# Altium footprint library QFP_Rect_65P_Side_N.PcbLib: 6 footprints
Each footprint in its own frame and in the unit in brackets; x right, y up, seen from the top. Pads: shape width x height; smd on the part's side, far side on the other; paste and mask are expansions set on the pad; w line width, h text height; cw(c..) or ccw(c..) is an arc to the next point about the centre after c.
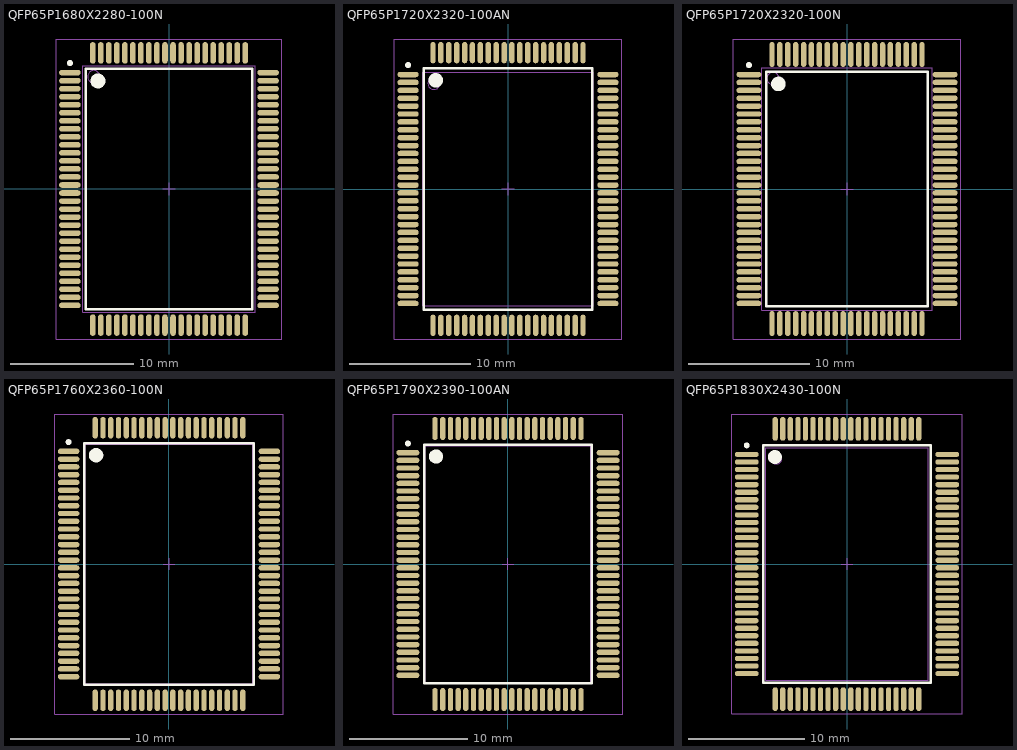
[diagram p0: the footprints below, top view; thin cyan lines are the x and y axes]

## QFP65P1680X2280-100N [mm] "100-Pin Quad Flat Pack Rectangular 0.65 mm Pitch"
height 3.05
pads (100):
  oval 1.75x0.45 smd: 1(-8.025,9.425) 2(-8.025,8.775) 3(-8.025,8.125) 4(-8.025,7.475) 5(-8.025,6.825) 6(-8.025,6.175) 7(-8.025,5.525) 8(-8.025,4.875) 9(-8.025,4.225) 10(-8.025,3.575) 11(-8.025,2.925) 12(-8.025,2.275) 13(-8.025,1.625) 14(-8.025,0.975) 15(-8.025,0.325) 16(-8.025,-0.325) 17(-8.025,-0.975) 18(-8.025,-1.625) 19(-8.025,-2.275) 20(-8.025,-2.925) 21(-8.025,-3.575) 22(-8.025,-4.225) 23(-8.025,-4.875) 24(-8.025,-5.525) 25(-8.025,-6.175) 26(-8.025,-6.825) 27(-8.025,-7.475) 28(-8.025,-8.125) 29(-8.025,-8.775) 30(-8.025,-9.425) 51(8.025,-9.425) 52(8.025,-8.775) 53(8.025,-8.125) 54(8.025,-7.475) 55(8.025,-6.825) 56(8.025,-6.175) 57(8.025,-5.525) 58(8.025,-4.875) 59(8.025,-4.225) 60(8.025,-3.575) 61(8.025,-2.925) 62(8.025,-2.275) 63(8.025,-1.625) 64(8.025,-0.975) 65(8.025,-0.325) 66(8.025,0.325) 67(8.025,0.975) 68(8.025,1.625) 69(8.025,2.275) 70(8.025,2.925) 71(8.025,3.575) 72(8.025,4.225) 73(8.025,4.875) 74(8.025,5.525) 75(8.025,6.175) 76(8.025,6.825) 77(8.025,7.475) 78(8.025,8.125) 79(8.025,8.775) 80(8.025,9.425)
  oval 0.45x1.75 smd: 31(-6.175,-11.025) 32(-5.525,-11.025) 33(-4.875,-11.025) 34(-4.225,-11.025) 35(-3.575,-11.025) 36(-2.925,-11.025) 37(-2.275,-11.025) 38(-1.625,-11.025) 39(-0.975,-11.025) 40(-0.325,-11.025) 41(0.325,-11.025) 42(0.975,-11.025) 43(1.625,-11.025) 44(2.275,-11.025) 45(2.925,-11.025) 46(3.575,-11.025) 47(4.225,-11.025) 48(4.875,-11.025) 49(5.525,-11.025) 50(6.175,-11.025) 81(6.175,11.025) 82(5.525,11.025) 83(4.875,11.025) 84(4.225,11.025) 85(3.575,11.025) 86(2.925,11.025) 87(2.275,11.025) 88(1.625,11.025) 89(0.975,11.025) 90(0.325,11.025) 91(-0.325,11.025) 92(-0.975,11.025) 93(-1.625,11.025) 94(-2.275,11.025) 95(-2.925,11.025) 96(-3.575,11.025) 97(-4.225,11.025) 98(-4.875,11.025) 99(-5.525,11.025) 100(-6.175,11.025)
Top Overlay:
  circle w0.6: c-5.75,8.75 r0.3
  circle w0.25: c-8.025,10.2 r0.125
  lines w0.2: -6.75,-9.75 6.75,-9.75 6.75,9.75 -6.75,9.75 -6.75,-9.75
Mechanical 13:
  circle w0.1: c-6.1,9.1 r0.5
  lines w0.1: -7,-10 7,-10 7,10 -7,10 -7,-10
Mechanical 15:
  lines w0.1: -0.5,0 0.5,0 ; 0,-0.5 0,0.5 ; -9.15,-12.15 9.15,-12.15 9.15,12.15 -9.15,12.15 -9.15,-12.15
3D body: height 3.05, standoff 0, extent -7,-10 7,10

## QFP65P1720X2320-100AN [mm] "QFP, 100-Leads, Body 20x14mm, Pitch 0.65mm, IPC Medium Density"
height 3.22
pads (100):
  oval 1.75x0.45 smd: 1(-8.225,9.425) 2(-8.225,8.775) 3(-8.225,8.125) 4(-8.225,7.475) 5(-8.225,6.825) 6(-8.225,6.175) 7(-8.225,5.525) 8(-8.225,4.875) 9(-8.225,4.225) 10(-8.225,3.575) 11(-8.225,2.925) 12(-8.225,2.275) 13(-8.225,1.625) 14(-8.225,0.975) 15(-8.225,0.325) 16(-8.225,-0.325) 17(-8.225,-0.975) 18(-8.225,-1.625) 19(-8.225,-2.275) 20(-8.225,-2.925) 21(-8.225,-3.575) 22(-8.225,-4.225) 23(-8.225,-4.875) 24(-8.225,-5.525) 25(-8.225,-6.175) 26(-8.225,-6.825) 27(-8.225,-7.475) 28(-8.225,-8.125) 29(-8.225,-8.775) 30(-8.225,-9.425) 51(8.225,-9.425) 52(8.225,-8.775) 53(8.225,-8.125) 54(8.225,-7.475) 55(8.225,-6.825) 56(8.225,-6.175) 57(8.225,-5.525) 58(8.225,-4.875) 59(8.225,-4.225) 60(8.225,-3.575) 61(8.225,-2.925) 62(8.225,-2.275) 63(8.225,-1.625) 64(8.225,-0.975) 65(8.225,-0.325) 66(8.225,0.325) 67(8.225,0.975) 68(8.225,1.625) 69(8.225,2.275) 70(8.225,2.925) 71(8.225,3.575) 72(8.225,4.225) 73(8.225,4.875) 74(8.225,5.525) 75(8.225,6.175) 76(8.225,6.825) 77(8.225,7.475) 78(8.225,8.125) 79(8.225,8.775) 80(8.225,9.425)
  oval 0.45x1.75 smd: 31(-6.175,-11.225) 32(-5.525,-11.225) 33(-4.875,-11.225) 34(-4.225,-11.225) 35(-3.575,-11.225) 36(-2.925,-11.225) 37(-2.275,-11.225) 38(-1.625,-11.225) 39(-0.975,-11.225) 40(-0.325,-11.225) 41(0.325,-11.225) 42(0.975,-11.225) 43(1.625,-11.225) 44(2.275,-11.225) 45(2.925,-11.225) 46(3.575,-11.225) 47(4.225,-11.225) 48(4.875,-11.225) 49(5.525,-11.225) 50(6.175,-11.225) 81(6.175,11.225) 82(5.525,11.225) 83(4.875,11.225) 84(4.225,11.225) 85(3.575,11.225) 86(2.925,11.225) 87(2.275,11.225) 88(1.625,11.225) 89(0.975,11.225) 90(0.325,11.225) 91(-0.325,11.225) 92(-0.975,11.225) 93(-1.625,11.225) 94(-2.275,11.225) 95(-2.925,11.225) 96(-3.575,11.225) 97(-4.225,11.225) 98(-4.875,11.225) 99(-5.525,11.225) 100(-6.175,11.225)
Top Overlay:
  circle w0.25: c-8.225,10.2 r0.125
  circle w0.6: c-5.95,8.95 r0.3
  lines w0.2: -6.95,-9.95 -6.95,9.95 6.95,9.95 6.95,-9.95 -6.95,-9.95
Mechanical 13:
  circle w0.1: c-6.1,8.7 r0.5
  lines w0.1: -7,-9.6 -7,9.6 7,9.6 7,-9.6 -7,-9.6
Mechanical 15:
  lines w0.1: -0.5,0 0.5,0 ; 0,-0.5 0,0.5 ; -9.35,-12.35 -9.35,12.35 9.35,12.35 9.35,-12.35 -9.35,-12.35
3D body: height 3.22, standoff 0, extent -7,-9.6 7,9.6

## QFP65P1720X2320-100N [mm] "QFP, 100-Leads, Body 20x14mm, Pitch 0.65mm, IPC Medium Density"
height 3.4
pads (100):
  oval 2.05x0.45 smd: 1(-8.075,9.425) 2(-8.075,8.775) 3(-8.075,8.125) 4(-8.075,7.475) 5(-8.075,6.825) 6(-8.075,6.175) 7(-8.075,5.525) 8(-8.075,4.875) 9(-8.075,4.225) 10(-8.075,3.575) 11(-8.075,2.925) 12(-8.075,2.275) 13(-8.075,1.625) 14(-8.075,0.975) 15(-8.075,0.325) 16(-8.075,-0.325) 17(-8.075,-0.975) 18(-8.075,-1.625) 19(-8.075,-2.275) 20(-8.075,-2.925) 21(-8.075,-3.575) 22(-8.075,-4.225) 23(-8.075,-4.875) 24(-8.075,-5.525) 25(-8.075,-6.175) 26(-8.075,-6.825) 27(-8.075,-7.475) 28(-8.075,-8.125) 29(-8.075,-8.775) 30(-8.075,-9.425) 51(8.075,-9.425) 52(8.075,-8.775) 53(8.075,-8.125) 54(8.075,-7.475) 55(8.075,-6.825) 56(8.075,-6.175) 57(8.075,-5.525) 58(8.075,-4.875) 59(8.075,-4.225) 60(8.075,-3.575) 61(8.075,-2.925) 62(8.075,-2.275) 63(8.075,-1.625) 64(8.075,-0.975) 65(8.075,-0.325) 66(8.075,0.325) 67(8.075,0.975) 68(8.075,1.625) 69(8.075,2.275) 70(8.075,2.925) 71(8.075,3.575) 72(8.075,4.225) 73(8.075,4.875) 74(8.075,5.525) 75(8.075,6.175) 76(8.075,6.825) 77(8.075,7.475) 78(8.075,8.125) 79(8.075,8.775) 80(8.075,9.425)
  oval 0.45x2.05 smd: 31(-6.175,-11.075) 32(-5.525,-11.075) 33(-4.875,-11.075) 34(-4.225,-11.075) 35(-3.575,-11.075) 36(-2.925,-11.075) 37(-2.275,-11.075) 38(-1.625,-11.075) 39(-0.975,-11.075) 40(-0.325,-11.075) 41(0.325,-11.075) 42(0.975,-11.075) 43(1.625,-11.075) 44(2.275,-11.075) 45(2.925,-11.075) 46(3.575,-11.075) 47(4.225,-11.075) 48(4.875,-11.075) 49(5.525,-11.075) 50(6.175,-11.075) 81(6.175,11.075) 82(5.525,11.075) 83(4.875,11.075) 84(4.225,11.075) 85(3.575,11.075) 86(2.925,11.075) 87(2.275,11.075) 88(1.625,11.075) 89(0.975,11.075) 90(0.325,11.075) 91(-0.325,11.075) 92(-0.975,11.075) 93(-1.625,11.075) 94(-2.275,11.075) 95(-2.925,11.075) 96(-3.575,11.075) 97(-4.225,11.075) 98(-4.875,11.075) 99(-5.525,11.075) 100(-6.175,11.075)
Top Overlay:
  circle w0.6: c-5.65,8.65 r0.3
  circle w0.25: c-8.075,10.2 r0.125
  lines w0.2: -6.65,-9.65 6.65,-9.65 6.65,9.65 -6.65,9.65 -6.65,-9.65
Mechanical 13:
  circle w0.1: c-6.1,9.1 r0.5
  lines w0.1: -7,-10 7,-10 7,10 -7,10 -7,-10
Mechanical 15:
  lines w0.1: -0.5,0 0.5,0 ; 0,-0.5 0,0.5 ; -9.35,-12.35 9.35,-12.35 9.35,12.35 -9.35,12.35 -9.35,-12.35
3D body: height 3.4, standoff 0, extent -7,-10 7,10

## QFP65P1760X2360-100N [mm] "QFP, 100-Leads, Body 20x14mm, Pitch 0.65mm, IPC Medium Density"
height 3.27
pads (100):
  oval 1.8x0.45 smd: 1(-8.4,9.425) 2(-8.4,8.775) 3(-8.4,8.125) 4(-8.4,7.475) 5(-8.4,6.825) 6(-8.4,6.175) 7(-8.4,5.525) 8(-8.4,4.875) 9(-8.4,4.225) 10(-8.4,3.575) 11(-8.4,2.925) 12(-8.4,2.275) 13(-8.4,1.625) 14(-8.4,0.975) 15(-8.4,0.325) 16(-8.4,-0.325) 17(-8.4,-0.975) 18(-8.4,-1.625) 19(-8.4,-2.275) 20(-8.4,-2.925) 21(-8.4,-3.575) 22(-8.4,-4.225) 23(-8.4,-4.875) 24(-8.4,-5.525) 25(-8.4,-6.175) 26(-8.4,-6.825) 27(-8.4,-7.475) 28(-8.4,-8.125) 29(-8.4,-8.775) 30(-8.4,-9.425) 51(8.4,-9.425) 52(8.4,-8.775) 53(8.4,-8.125) 54(8.4,-7.475) 55(8.4,-6.825) 56(8.4,-6.175) 57(8.4,-5.525) 58(8.4,-4.875) 59(8.4,-4.225) 60(8.4,-3.575) 61(8.4,-2.925) 62(8.4,-2.275) 63(8.4,-1.625) 64(8.4,-0.975) 65(8.4,-0.325) 66(8.4,0.325) 67(8.4,0.975) 68(8.4,1.625) 69(8.4,2.275) 70(8.4,2.925) 71(8.4,3.575) 72(8.4,4.225) 73(8.4,4.875) 74(8.4,5.525) 75(8.4,6.175) 76(8.4,6.825) 77(8.4,7.475) 78(8.4,8.125) 79(8.4,8.775) 80(8.4,9.425)
  oval 0.45x1.8 smd: 31(-6.175,-11.4) 32(-5.525,-11.4) 33(-4.875,-11.4) 34(-4.225,-11.4) 35(-3.575,-11.4) 36(-2.925,-11.4) 37(-2.275,-11.4) 38(-1.625,-11.4) 39(-0.975,-11.4) 40(-0.325,-11.4) 41(0.325,-11.4) 42(0.975,-11.4) 43(1.625,-11.4) 44(2.275,-11.4) 45(2.925,-11.4) 46(3.575,-11.4) 47(4.225,-11.4) 48(4.875,-11.4) 49(5.525,-11.4) 50(6.175,-11.4) 81(6.175,11.4) 82(5.525,11.4) 83(4.875,11.4) 84(4.225,11.4) 85(3.575,11.4) 86(2.925,11.4) 87(2.275,11.4) 88(1.625,11.4) 89(0.975,11.4) 90(0.325,11.4) 91(-0.325,11.4) 92(-0.975,11.4) 93(-1.625,11.4) 94(-2.275,11.4) 95(-2.925,11.4) 96(-3.575,11.4) 97(-4.225,11.4) 98(-4.875,11.4) 99(-5.525,11.4) 100(-6.175,11.4)
Top Overlay:
  circle w0.6: c-6.1,9.1 r0.3
  circle w0.25: c-8.4,10.2 r0.125
  lines w0.2: -7.1,-10.1 7.1,-10.1 7.1,10.1 -7.1,10.1 -7.1,-10.1
Mechanical 13:
  circle w0.1: c-6.1,9.1 r0.5
  lines w0.1: -7,-10 7,-10 7,10 -7,10 -7,-10
Mechanical 15:
  lines w0.1: -0.5,0 0.5,0 ; 0,-0.5 0,0.5 ; -9.55,-12.55 9.55,-12.55 9.55,12.55 -9.55,12.55 -9.55,-12.55
3D body: height 3.27, standoff 0, extent -7,-10 7,10

## QFP65P1790X2390-100AN [mm] "QFP, 100-Leads, Body 20x14mm, Pitch 0.65mm, IPC Medium Density"
height 3.3
pads (100):
  oval 1.95x0.45 smd: 1(-8.475,9.425) 2(-8.475,8.775) 3(-8.475,8.125) 4(-8.475,7.475) 5(-8.475,6.825) 6(-8.475,6.175) 7(-8.475,5.525) 8(-8.475,4.875) 9(-8.475,4.225) 10(-8.475,3.575) 11(-8.475,2.925) 12(-8.475,2.275) 13(-8.475,1.625) 14(-8.475,0.975) 15(-8.475,0.325) 16(-8.475,-0.325) 17(-8.475,-0.975) 18(-8.475,-1.625) 19(-8.475,-2.275) 20(-8.475,-2.925) 21(-8.475,-3.575) 22(-8.475,-4.225) 23(-8.475,-4.875) 24(-8.475,-5.525) 25(-8.475,-6.175) 26(-8.475,-6.825) 27(-8.475,-7.475) 28(-8.475,-8.125) 29(-8.475,-8.775) 30(-8.475,-9.425) 51(8.475,-9.425) 52(8.475,-8.775) 53(8.475,-8.125) 54(8.475,-7.475) 55(8.475,-6.825) 56(8.475,-6.175) 57(8.475,-5.525) 58(8.475,-4.875) 59(8.475,-4.225) 60(8.475,-3.575) 61(8.475,-2.925) 62(8.475,-2.275) 63(8.475,-1.625) 64(8.475,-0.975) 65(8.475,-0.325) 66(8.475,0.325) 67(8.475,0.975) 68(8.475,1.625) 69(8.475,2.275) 70(8.475,2.925) 71(8.475,3.575) 72(8.475,4.225) 73(8.475,4.875) 74(8.475,5.525) 75(8.475,6.175) 76(8.475,6.825) 77(8.475,7.475) 78(8.475,8.125) 79(8.475,8.775) 80(8.475,9.425)
  oval 0.45x1.95 smd: 31(-6.175,-11.475) 32(-5.525,-11.475) 33(-4.875,-11.475) 34(-4.225,-11.475) 35(-3.575,-11.475) 36(-2.925,-11.475) 37(-2.275,-11.475) 38(-1.625,-11.475) 39(-0.975,-11.475) 40(-0.325,-11.475) 41(0.325,-11.475) 42(0.975,-11.475) 43(1.625,-11.475) 44(2.275,-11.475) 45(2.925,-11.475) 46(3.575,-11.475) 47(4.225,-11.475) 48(4.875,-11.475) 49(5.525,-11.475) 50(6.175,-11.475) 81(6.175,11.475) 82(5.525,11.475) 83(4.875,11.475) 84(4.225,11.475) 85(3.575,11.475) 86(2.925,11.475) 87(2.275,11.475) 88(1.625,11.475) 89(0.975,11.475) 90(0.325,11.475) 91(-0.325,11.475) 92(-0.975,11.475) 93(-1.625,11.475) 94(-2.275,11.475) 95(-2.925,11.475) 96(-3.575,11.475) 97(-4.225,11.475) 98(-4.875,11.475) 99(-5.525,11.475) 100(-6.175,11.475)
Top Overlay:
  circle w0.25: c-8.475,10.2 r0.125
  circle w0.6: c-6.1,9.1 r0.3
  lines w0.2: -7.1,-10.1 -7.1,10.1 7.1,10.1 7.1,-10.1 -7.1,-10.1
Mechanical 13:
  circle w0.1: c-6.1,9.1 r0.5
  lines w0.1: -7,-10 -7,10 7,10 7,-10 -7,-10
Mechanical 15:
  lines w0.1: -0.5,0 0.5,0 ; 0,-0.5 0,0.5 ; -9.7,-12.7 -9.7,12.7 9.7,12.7 9.7,-12.7 -9.7,-12.7
3D body: height 3.3, standoff 0, extent -7,-10 7,10

## QFP65P1830X2430-100N [mm] "QFP, 100-Leads, Body 20x14mm, Pitch 0.65mm, IPC Medium Density"
height 2.15
pads (100):
  oval 2.05x0.45 smd: 1(-8.625,9.425) 2(-8.625,8.775) 3(-8.625,8.125) 4(-8.625,7.475) 5(-8.625,6.825) 6(-8.625,6.175) 7(-8.625,5.525) 8(-8.625,4.875) 9(-8.625,4.225) 10(-8.625,3.575) 11(-8.625,2.925) 12(-8.625,2.275) 13(-8.625,1.625) 14(-8.625,0.975) 15(-8.625,0.325) 16(-8.625,-0.325) 17(-8.625,-0.975) 18(-8.625,-1.625) 19(-8.625,-2.275) 20(-8.625,-2.925) 21(-8.625,-3.575) 22(-8.625,-4.225) 23(-8.625,-4.875) 24(-8.625,-5.525) 25(-8.625,-6.175) 26(-8.625,-6.825) 27(-8.625,-7.475) 28(-8.625,-8.125) 29(-8.625,-8.775) 30(-8.625,-9.425) 51(8.625,-9.425) 52(8.625,-8.775) 53(8.625,-8.125) 54(8.625,-7.475) 55(8.625,-6.825) 56(8.625,-6.175) 57(8.625,-5.525) 58(8.625,-4.875) 59(8.625,-4.225) 60(8.625,-3.575) 61(8.625,-2.925) 62(8.625,-2.275) 63(8.625,-1.625) 64(8.625,-0.975) 65(8.625,-0.325) 66(8.625,0.325) 67(8.625,0.975) 68(8.625,1.625) 69(8.625,2.275) 70(8.625,2.925) 71(8.625,3.575) 72(8.625,4.225) 73(8.625,4.875) 74(8.625,5.525) 75(8.625,6.175) 76(8.625,6.825) 77(8.625,7.475) 78(8.625,8.125) 79(8.625,8.775) 80(8.625,9.425)
  oval 0.45x2.05 smd: 31(-6.175,-11.625) 32(-5.525,-11.625) 33(-4.875,-11.625) 34(-4.225,-11.625) 35(-3.575,-11.625) 36(-2.925,-11.625) 37(-2.275,-11.625) 38(-1.625,-11.625) 39(-0.975,-11.625) 40(-0.325,-11.625) 41(0.325,-11.625) 42(0.975,-11.625) 43(1.625,-11.625) 44(2.275,-11.625) 45(2.925,-11.625) 46(3.575,-11.625) 47(4.225,-11.625) 48(4.875,-11.625) 49(5.525,-11.625) 50(6.175,-11.625) 81(6.175,11.625) 82(5.525,11.625) 83(4.875,11.625) 84(4.225,11.625) 85(3.575,11.625) 86(2.925,11.625) 87(2.275,11.625) 88(1.625,11.625) 89(0.975,11.625) 90(0.325,11.625) 91(-0.325,11.625) 92(-0.975,11.625) 93(-1.625,11.625) 94(-2.275,11.625) 95(-2.925,11.625) 96(-3.575,11.625) 97(-4.225,11.625) 98(-4.875,11.625) 99(-5.525,11.625) 100(-6.175,11.625)
Top Overlay:
  circle w0.6: c-6.2,9.2 r0.3
  circle w0.25: c-8.625,10.2 r0.125
  lines w0.2: -7.2,-10.2 7.2,-10.2 7.2,10.2 -7.2,10.2 -7.2,-10.2
Mechanical 13:
  circle w0.1: c-6.1,9.1 r0.5
  lines w0.1: -7,-10 7,-10 7,10 -7,10 -7,-10
Mechanical 15:
  lines w0.1: -0.5,0 0.5,0 ; 0,-0.5 0,0.5 ; -9.9,-12.9 9.9,-12.9 9.9,12.9 -9.9,12.9 -9.9,-12.9
3D body: height 2.15, standoff 0, extent -7,-10 7,10